# EAGLE library part PIC12F683 (library PIC 12F683)
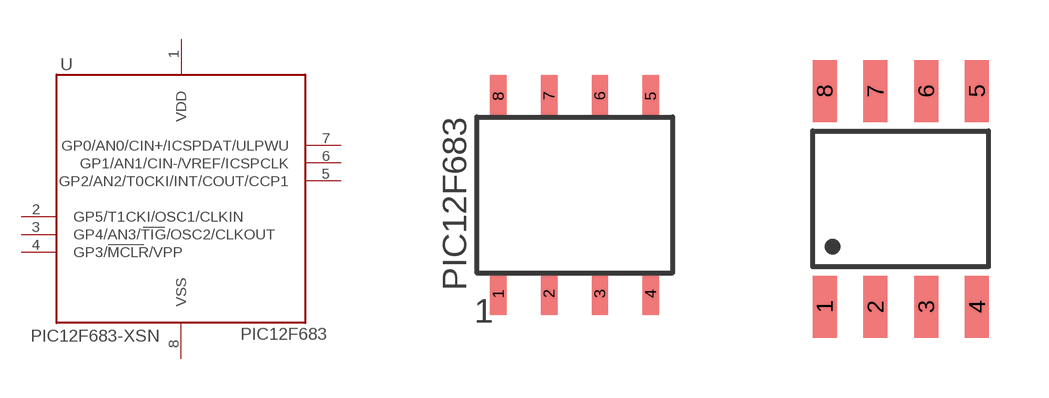
[diagram p0: symbol with the pads of PIC12F683; footprints PIC12F683, PIC12F683_PATRON_RECOMENDADO]

Designator prefix -

## PIC12F683  [PIC12F683]
1  VDD  pwr
2  GP5/T1CKI/OSC1/CLKIN
3  GP4/AN3/TIG/OSC2/CLKOUT
4  GP3/MCLR/VPP  in
5  GP2/AN2/T0CKI/INT/COUT/CCP1
6  GP1/AN1/CIN-/VREF/ICSPCLK
7  GP0/AN0/CIN+/ICSPDAT/ULPWU
8  VSS  pwr

## PIC12F683.  [PIC12F683_PATRON_RECOMENDADO]
Pads as for PIC12F683

## Footprint PIC12F683 (pad centres in mm)
smd 0.41 x 1.05: 1 -1.905,-2.475; 2 -0.635,-2.475; 3 0.635,-2.475; 4 1.905,-2.475; 5 1.905,2.475; 6 0.635,2.475; 7 -0.635,2.475; 8 -1.905,2.475

## Footprint PIC12F683_PATRON_RECOMENDADO (pad centres in mm)
smd 0.6 x 1.55: 1 0,0; 2 1.27,0; 3 2.54,0; 4 3.81,0; 5 3.81,5.4; 6 2.54,5.4; 7 1.27,5.4; 8 0,5.4